# Altium integrated library STMicroelectronics Power Management Switching Regulator.IntLib: 23 symbols
Pins are listed as number, name and electrical type; pins without a type are passive.

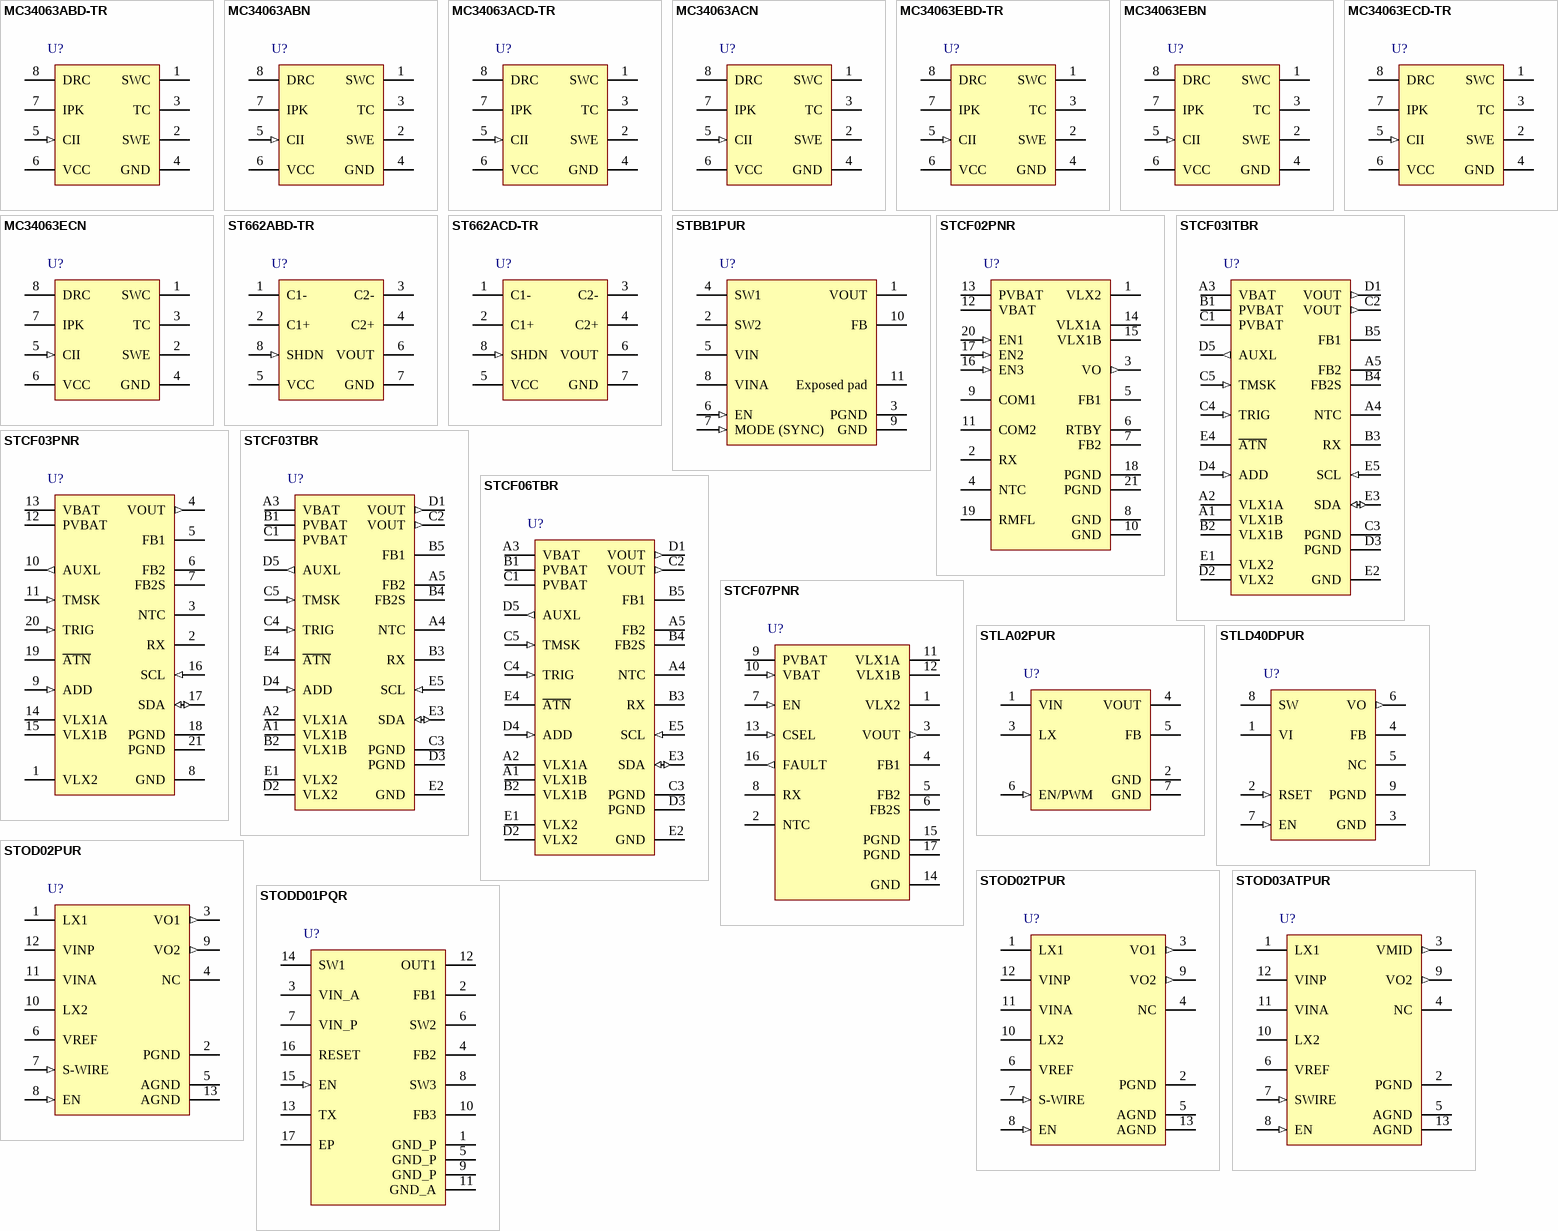
[diagram p0: symbols MC34063ABD-TR to STODD01PQR]

## MC34063ABD-TR
designator U?
DC/DC converter control circuit, 8-Pin SO, Tape and Reel; DatasheetVersion: Nov-2007; PackageVersion: Dec-2002; PackageReference: SO8; PackageDescription: 8-Pin Small Outline Integrated Circuit 1.27 mm Pitch; Code_JEDEC: MS-012-AA; Code_IPC: SOIC127P600-8; ComponentLink1Description: Manufacturer URL; ComponentLink1URL: http://www.st.com; ComponentLink2Description: Datasheet; ComponentLink2URL: http://www.st.com/internet/com/TECHNICAL_RESOURCES/TECHNICAL_LITERATURE/DATASHEET/CD00001232.pdf; ComponentLink3Description: Package Specification; ComponentLink3URL: http://www.st.com/internet/com/TECHNICAL_RESOURCES/TECHNICAL_LITERATURE/PACKAGE_INFORMATION/CD00004680.pdf
footprint SO8_N (SOIC, 8-Leads, Body 4.9x3.9mm, Pitch 1.27mm, IPC Medium Density)
footprint SO8_L (SOIC, 8-Leads, Body 4.9x3.9mm, Pitch 1.27mm, IPC High Density)
footprint SO8_M (SOIC, 8-Leads, Body 4.9x3.9mm, Pitch 1.27mm, IPC Low Density)
pins: 1 SWC (oc), 2 SWE (oe), 3 TC, 4 GND (power), 5 CII (in), 6 VCC (power), 7 IPK, 8 DRC (oc)

## MC34063ABN
designator U?
DC/DC converter control circuit, 8-Pin DIP; DatasheetVersion: Nov-2007; PackageVersion: 2007; PackageReference: DIP8; PackageDescription: DIP, 8-Pin, Skinny Dual In-line Package, 300mil Wide, Pitch 2.54 mm; Code_JEDEC: MO-001-AN; ComponentLink1Description: Manufacturer URL; ComponentLink1URL: http://www.st.com; ComponentLink2Description: Datasheet; ComponentLink2URL: http://www.st.com/internet/com/TECHNICAL_RESOURCES/TECHNICAL_LITERATURE/DATASHEET/CD00001232.pdf
footprint DIP8 (DIP, 8-Leads, Row Spacing 7.62mm, Pitch 2.54mm, Body 9.9x6.4mm)
pins: 1 SWC (oc), 2 SWE (oe), 3 TC, 4 GND (power), 5 CII (in), 6 VCC (power), 7 IPK, 8 DRC (oc)

## MC34063ACD-TR
designator U?
DC/DC converter control circuit, 8-Pin SO, Tape and Reel; DatasheetVersion: Nov-2007; PackageVersion: Dec-2002; PackageReference: SO8; PackageDescription: 8-Pin Small Outline Integrated Circuit 1.27 mm Pitch; Code_JEDEC: MS-012-AA; Code_IPC: SOIC127P600-8; ComponentLink1Description: Manufacturer URL; ComponentLink1URL: http://www.st.com; ComponentLink2Description: Datasheet; ComponentLink2URL: http://www.st.com/internet/com/TECHNICAL_RESOURCES/TECHNICAL_LITERATURE/DATASHEET/CD00001232.pdf; ComponentLink3Description: Package Specification; ComponentLink3URL: http://www.st.com/internet/com/TECHNICAL_RESOURCES/TECHNICAL_LITERATURE/PACKAGE_INFORMATION/CD00004680.pdf
footprint SO8_N (SOIC, 8-Leads, Body 4.9x3.9mm, Pitch 1.27mm, IPC Medium Density)
footprint SO8_L (SOIC, 8-Leads, Body 4.9x3.9mm, Pitch 1.27mm, IPC High Density)
footprint SO8_M (SOIC, 8-Leads, Body 4.9x3.9mm, Pitch 1.27mm, IPC Low Density)
pins: 1 SWC (oc), 2 SWE (oe), 3 TC, 4 GND (power), 5 CII (in), 6 VCC (power), 7 IPK, 8 DRC (oc)

## MC34063ACN
designator U?
DC/DC converter control circuit, 8-Pin DIP; DatasheetVersion: Nov-2007; PackageVersion: 2007; PackageReference: DIP8; PackageDescription: DIP, 8-Pin, Skinny Dual In-line Package, 300mil Wide, Pitch 2.54 mm; Code_JEDEC: MO-001-AN; ComponentLink1Description: Manufacturer URL; ComponentLink1URL: http://www.st.com; ComponentLink2Description: Datasheet; ComponentLink2URL: http://www.st.com/internet/com/TECHNICAL_RESOURCES/TECHNICAL_LITERATURE/DATASHEET/CD00001232.pdf
footprint DIP8 (DIP, 8-Leads, Row Spacing 7.62mm, Pitch 2.54mm, Body 9.9x6.4mm)
pins: 1 SWC (oc), 2 SWE (oe), 3 TC, 4 GND (power), 5 CII (in), 6 VCC (power), 7 IPK, 8 DRC (oc)

## MC34063EBD-TR
designator U?
DC/DC converter control circuit, 8-Pin SO, Tape and Reel; DatasheetVersion: Nov-2007; PackageVersion: Dec-2002; PackageReference: SO8; PackageDescription: 8-Pin Small Outline Integrated Circuit 1.27 mm Pitch; Code_JEDEC: MS-012-AA; Code_IPC: SOIC127P600-8; ComponentLink1Description: Manufacturer URL; ComponentLink1URL: http://www.st.com; ComponentLink2Description: Datasheet; ComponentLink2URL: http://www.st.com/internet/com/TECHNICAL_RESOURCES/TECHNICAL_LITERATURE/DATASHEET/CD00001232.pdf; ComponentLink3Description: Package Specification; ComponentLink3URL: http://www.st.com/internet/com/TECHNICAL_RESOURCES/TECHNICAL_LITERATURE/PACKAGE_INFORMATION/CD00004680.pdf
footprint SO8_N (SOIC, 8-Leads, Body 4.9x3.9mm, Pitch 1.27mm, IPC Medium Density)
footprint SO8_L (SOIC, 8-Leads, Body 4.9x3.9mm, Pitch 1.27mm, IPC High Density)
footprint SO8_M (SOIC, 8-Leads, Body 4.9x3.9mm, Pitch 1.27mm, IPC Low Density)
pins: 1 SWC (oc), 2 SWE (oe), 3 TC, 4 GND (power), 5 CII (in), 6 VCC (power), 7 IPK, 8 DRC (oc)

## MC34063EBN
designator U?
DC/DC converter control circuit, 8-Pin DIP; DatasheetVersion: Nov-2007; PackageVersion: 2007; PackageReference: DIP8; PackageDescription: DIP, 8-Pin, Skinny Dual In-line Package, 300mil Wide, Pitch 2.54 mm; Code_JEDEC: MO-001-AN; ComponentLink1Description: Manufacturer URL; ComponentLink1URL: http://www.st.com; ComponentLink2Description: Datasheet; ComponentLink2URL: http://www.st.com/internet/com/TECHNICAL_RESOURCES/TECHNICAL_LITERATURE/DATASHEET/CD00001232.pdf
footprint DIP8 (DIP, 8-Leads, Row Spacing 7.62mm, Pitch 2.54mm, Body 9.9x6.4mm)
pins: 1 SWC (oc), 2 SWE (oe), 3 TC, 4 GND (power), 5 CII (in), 6 VCC (power), 7 IPK, 8 DRC (oc)

## MC34063ECD-TR
designator U?
DC/DC converter control circuit, 8-Pin SO, Tape and Reel; DatasheetVersion: Nov-2007; PackageVersion: Dec-2002; PackageReference: SO8; PackageDescription: 8-Pin Small Outline Integrated Circuit 1.27 mm Pitch; Code_JEDEC: MS-012-AA; Code_IPC: SOIC127P600-8; ComponentLink1Description: Manufacturer URL; ComponentLink1URL: http://www.st.com; ComponentLink2Description: Datasheet; ComponentLink2URL: http://www.st.com/internet/com/TECHNICAL_RESOURCES/TECHNICAL_LITERATURE/DATASHEET/CD00001232.pdf; ComponentLink3Description: Package Specification; ComponentLink3URL: http://www.st.com/internet/com/TECHNICAL_RESOURCES/TECHNICAL_LITERATURE/PACKAGE_INFORMATION/CD00004680.pdf
footprint SO8_N (SOIC, 8-Leads, Body 4.9x3.9mm, Pitch 1.27mm, IPC Medium Density)
footprint SO8_L (SOIC, 8-Leads, Body 4.9x3.9mm, Pitch 1.27mm, IPC High Density)
footprint SO8_M (SOIC, 8-Leads, Body 4.9x3.9mm, Pitch 1.27mm, IPC Low Density)
pins: 1 SWC (oc), 2 SWE (oe), 3 TC, 4 GND (power), 5 CII (in), 6 VCC (power), 7 IPK, 8 DRC (oc)

## MC34063ECN
designator U?
DC/DC converter control circuit, 8-Pin DIP; DatasheetVersion: Nov-2007; PackageVersion: 2007; PackageReference: DIP8; PackageDescription: DIP, 8-Pin, Skinny Dual In-line Package, 300mil Wide, Pitch 2.54 mm; Code_JEDEC: MO-001-AN; ComponentLink1Description: Manufacturer URL; ComponentLink1URL: http://www.st.com; ComponentLink2Description: Datasheet; ComponentLink2URL: http://www.st.com/internet/com/TECHNICAL_RESOURCES/TECHNICAL_LITERATURE/DATASHEET/CD00001232.pdf
footprint DIP8 (DIP, 8-Leads, Row Spacing 7.62mm, Pitch 2.54mm, Body 9.9x6.4mm)
pins: 1 SWC (oc), 2 SWE (oe), 3 TC, 4 GND (power), 5 CII (in), 6 VCC (power), 7 IPK, 8 DRC (oc)

## ST662ABD-TR
designator U?
0.03A, DC-DC converter from 5 to 12V for Flash memory programming supply, 8-Pin SO, Tape and Reel; DatasheetVersion: Aug-2010; PackageVersion: Dec-2002; PackageReference: SO8; PackageDescription: 8-Pin Small Outline Integrated Circuit 1.27 mm Pitch; Code_JEDEC: MS-012-AA; Code_IPC: SOIC127P600-8; ComponentLink1Description: Manufacturer URL; ComponentLink1URL: http://www.st.com; ComponentLink2Description: Datasheet; ComponentLink2URL: http://www.st.com/internet/com/TECHNICAL_RESOURCES/TECHNICAL_LITERATURE/DATASHEET/CD00001164.pdf; ComponentLink3Description: Package Specification; ComponentLink3URL: http://www.st.com/internet/com/TECHNICAL_RESOURCES/TECHNICAL_LITERATURE/PACKAGE_INFORMATION/CD00004680.pdf
footprint SO8_N (SOIC, 8-Leads, Body 4.9x3.9mm, Pitch 1.27mm, IPC Medium Density)
footprint SO8_L (SOIC, 8-Leads, Body 4.9x3.9mm, Pitch 1.27mm, IPC High Density)
footprint SO8_M (SOIC, 8-Leads, Body 4.9x3.9mm, Pitch 1.27mm, IPC Low Density)
pins: 1 C1-, 2 C1+, 3 C2-, 4 C2+, 5 VCC (power), 6 VOUT (power), 7 GND (power), 8 SHDN (in)

## ST662ACD-TR
designator U?
0.03A, DC-DC converter from 5 to 12V for Flash memory programming supply, 8-Pin SO, Tape and Reel; DatasheetVersion: Aug-2010; PackageVersion: Dec-2002; PackageReference: SO8; PackageDescription: 8-Pin Small Outline Integrated Circuit 1.27 mm Pitch; Code_JEDEC: MS-012-AA; Code_IPC: SOIC127P600-8; ComponentLink1Description: Manufacturer URL; ComponentLink1URL: http://www.st.com; ComponentLink2Description: Datasheet; ComponentLink2URL: http://www.st.com/internet/com/TECHNICAL_RESOURCES/TECHNICAL_LITERATURE/DATASHEET/CD00001164.pdf; ComponentLink3Description: Package Specification; ComponentLink3URL: http://www.st.com/internet/com/TECHNICAL_RESOURCES/TECHNICAL_LITERATURE/PACKAGE_INFORMATION/CD00004680.pdf
footprint SO8_N (SOIC, 8-Leads, Body 4.9x3.9mm, Pitch 1.27mm, IPC Medium Density)
footprint SO8_L (SOIC, 8-Leads, Body 4.9x3.9mm, Pitch 1.27mm, IPC High Density)
footprint SO8_M (SOIC, 8-Leads, Body 4.9x3.9mm, Pitch 1.27mm, IPC Low Density)
pins: 1 C1-, 2 C1+, 3 C2-, 4 C2+, 5 VCC (power), 6 VOUT (power), 7 GND (power), 8 SHDN (in)

## STBB1PUR
designator U?
1 A, high efficiency single inductor dual mode buck-boost DC-DC converter, DFN10 (3x3), Tape and Reel; DatasheetVersion: Sep-2010; PackageVersion: 2010; PackageReference: DFN10(3x3); PackageDescription: 10-Pin DFN, 3 x 3 x 1 mm Body, 0.5 mm Pitch, Exposed Pad; ComponentLink1Description: Manufacturer URL; ComponentLink1URL: http://www.st.com; ComponentLink2Description: Datasheet; ComponentLink2URL: http://www.st.com/internet/com/TECHNICAL_RESOURCES/TECHNICAL_LITERATURE/DATASHEET/CD00227570.pdf
footprint DFN10(3x3)_N (SON, 10-Leads, Body 3x3mm, Pitch 0.5mm, Thermal Pad 2.45x1.6mm, IPC Medium Density)
footprint DFN10(3x3)_L (SON, 10-Leads, Body 3x3mm, Pitch 0.5mm, Thermal Pad 2.45x1.6mm, IPC High Density)
footprint DFN10(3x3)_M (SON, 10-Leads, Body 3x3mm, Pitch 0.5mm, Thermal Pad 2.45x1.6mm, IPC Low Density)
pins: 1 VOUT (power), 2 SW2, 3 PGND (power), 4 SW1, 5 VIN (power), 6 EN (in), 7 MODE (SYNC) (in), 8 VINA (power), 9 GND (power), 10 FB, 11 Exposed pad (power)

## STCF02PNR
designator U?
High power white LED driver up to 600mA, 20-Pin VFQFPN, Tape and Reel; DatasheetVersion: Feb-2007; PackageVersion: 2007; PackageReference: QFN20; PackageDescription: 20-Pin Quad Flat No-Lead, 4 x 4 mm Body, 0.5 mm Pitch; ComponentLink1Description: Manufacturer URL; ComponentLink1URL: http://www.st.com; ComponentLink2Description: Datasheet; ComponentLink2URL: http://www.st.com/internet/com/TECHNICAL_RESOURCES/TECHNICAL_LITERATURE/DATASHEET/CD00072807.pdf
footprint QFN20_N (QFN, 20-Leads, Body 4x4mm, Pitch 0.5mm, Thermal Pad 2.3x2.3mm, IPC Medium Density)
footprint QFN20_L (QFN, 20-Leads, Body 4x4mm, Pitch 0.5mm, Thermal Pad 2.3x2.3mm, IPC High Density)
footprint QFN20_M (QFN, 20-Leads, Body 4x4mm, Pitch 0.5mm, Thermal Pad 2.3x2.3mm, IPC Low Density)
pins: 1 VLX2, 2 RX, 3 VO (out), 4 NTC, 5 FB1, 6 RTBY, 7 FB2, 8 GND (power), 9 COM1, 10 GND (power), 11 COM2, 12 VBAT (power), 13 PVBAT (power), 14 VLX1A, 15 VLX1B, 16 EN3 (in), 17 EN2 (in), 18 PGND (power), 19 RMFL, 20 EN1 (in), 21 PGND (power)

## STCF03ITBR
designator U?
High power white LED driver up to 800mA, 25-Ball uTFBGA, Tape and Reel; DatasheetVersion: Sep-2008; PackageVersion: ver1.0, May-2005; PackageReference: uTFBGA25; PackageDescription: 25-Ball Thin-Profile Fine-Pitch Ball Grid Array 0.5 mm Pitch; ComponentLink1Description: Manufacturer URL; ComponentLink1URL: http://www.st.com; ComponentLink2Description: Datasheet; ComponentLink2URL: http://www.st.com/internet/com/TECHNICAL_RESOURCES/TECHNICAL_LITERATURE/DATASHEET/CD00166675.pdf; ComponentLink3Description: Package Specification; ComponentLink3URL: http://www.st.com/internet/com/TECHNICAL_RESOURCES/TECHNICAL_LITERATURE/PACKAGE_INFORMATION/CD00056367.pdf
footprint TFBGA25 (BGA, 25-Leads, Body 3x3mm, Pitch 0.5mm)
pins: A1 VLX1B, A2 VLX1A, A3 VBAT (power), A4 NTC, A5 FB2, B1 PVBAT (power), B2 VLX1B, B3 RX, B4 FB2S, B5 FB1, C1 PVBAT (power), C2 VOUT (out), C3 PGND (power), C4 TRIG (in), C5 TMSK (in), D1 VOUT (out), D2 VLX2, D3 PGND (power), D4 ADD (in), D5 AUXL (out), E1 VLX2, E2 GND (power), E3 SDA (io), E4 ~{ATN} (oc), E5 SCL (in)

## STCF03PNR
designator U?
High power white LED driver up to 800mA, 20-Pin VFQFPN, Tape and Reel; DatasheetVersion: Feb-2011; PackageVersion: 2011; PackageReference: QFN20(4x4); PackageDescription: 20-Pin Quad Flat No-Lead, 4 x 4 mm Body, 0.5 mm Pitch; ComponentLink1Description: Manufacturer URL; ComponentLink1URL: http://www.st.com; ComponentLink2Description: Datasheet; ComponentLink2URL: http://www.st.com/internet/com/TECHNICAL_RESOURCES/TECHNICAL_LITERATURE/DATASHEET/CD00150946.pdf
footprint QFN20(4x4)_N (QFN, 20-Leads, Body 4x4mm, Pitch 0.5mm, Thermal Pad 2.7x2.7mm, IPC Medium Density)
footprint QFN20(4x4)_L (QFN, 20-Leads, Body 4x4mm, Pitch 0.5mm, Thermal Pad 2.7x2.7mm, IPC High Density)
footprint QFN20(4x4)_M (QFN, 20-Leads, Body 4x4mm, Pitch 0.5mm, Thermal Pad 2.7x2.7mm, IPC Low Density)
pins: 1 VLX2, 2 RX, 3 NTC, 4 VOUT (out), 5 FB1, 6 FB2, 7 FB2S, 8 GND (power), 9 ADD (in), 10 AUXL (out), 11 TMSK (in), 12 PVBAT (power), 13 VBAT (power), 14 VLX1A, 15 VLX1B, 16 SCL (in), 17 SDA (io), 18 PGND (power), 19 ~{ATN} (oc), 20 TRIG (in), 21 PGND (power)

## STCF03TBR
designator U?
High power white LED driver up to 800mA, 25-Ball uTFBGA, Tape and Reel; DatasheetVersion: Feb-2011; PackageVersion: ver1.0, May-2005; PackageReference: uTFBGA25; PackageDescription: 25-Ball Thin-Profile Fine-Pitch Ball Grid Array 0.5 mm Pitch; ComponentLink1Description: Manufacturer URL; ComponentLink1URL: http://www.st.com; ComponentLink2Description: Datasheet; ComponentLink2URL: http://www.st.com/internet/com/TECHNICAL_RESOURCES/TECHNICAL_LITERATURE/DATASHEET/CD00150946.pdf; ComponentLink3Description: Package Specification; ComponentLink3URL: http://www.st.com/internet/com/TECHNICAL_RESOURCES/TECHNICAL_LITERATURE/PACKAGE_INFORMATION/CD00056367.pdf
footprint TFBGA25 (BGA, 25-Leads, Body 3x3mm, Pitch 0.5mm)
pins: A1 VLX1B, A2 VLX1A, A3 VBAT (power), A4 NTC, A5 FB2, B1 PVBAT (power), B2 VLX1B, B3 RX, B4 FB2S, B5 FB1, C1 PVBAT (power), C2 VOUT (out), C3 PGND (power), C4 TRIG (in), C5 TMSK (in), D1 VOUT (out), D2 VLX2, D3 PGND (power), D4 ADD (in), D5 AUXL (out), E1 VLX2, E2 GND (power), E3 SDA (io), E4 ~{ATN} (oc), E5 SCL (in)

## STCF06TBR
designator U?
White LED driver with 12C interface, 25-Ball uTFBGA, Tape and Reel; DatasheetVersion: Jul-2010; PackageVersion: ver1.0, May-2005; PackageReference: uTFBGA25; PackageDescription: 25-Ball Thin-Profile Fine-Pitch Ball Grid Array 0.5 mm Pitch; ComponentLink1Description: Manufacturer URL; ComponentLink1URL: http://www.st.com; ComponentLink2Description: Datasheet; ComponentLink2URL: http://www.st.com/internet/com/TECHNICAL_RESOURCES/TECHNICAL_LITERATURE/DATASHEET/CD00188881.pdf; ComponentLink3Description: Package Specification; ComponentLink3URL: http://www.st.com/internet/com/TECHNICAL_RESOURCES/TECHNICAL_LITERATURE/PACKAGE_INFORMATION/CD00056367.pdf
footprint TFBGA25 (BGA, 25-Leads, Body 3x3mm, Pitch 0.5mm)
pins: A1 VLX1B, A2 VLX1A, A3 VBAT (power), A4 NTC, A5 FB2, B1 PVBAT (power), B2 VLX1B, B3 RX, B4 FB2S, B5 FB1, C1 PVBAT (power), C2 VOUT (out), C3 PGND (power), C4 TRIG (in), C5 TMSK (in), D1 VOUT (out), D2 VLX2, D3 PGND (power), D4 ADD (in), D5 AUXL (out), E1 VLX2, E2 GND (power), E3 SDA (io), E4 ~{ATN} (oc), E5 SCL (in)

## STCF07PNR
designator U?
High buck-boost power white LED driver, 16-Pin VFQFPN, Tape and Reel; DatasheetVersion: Apr-2011; PackageVersion: ver1.0, Nov-2005; PackageReference: QFN16(4x4); PackageDescription: 16-Pin Quad Flat No-Lead, 4 x 4 mm Body, 0.5 mm Pitch; ComponentLink1Description: Manufacturer URL; ComponentLink1URL: http://www.st.com; ComponentLink2Description: Datasheet; ComponentLink2URL: http://www.st.com/internet/com/TECHNICAL_RESOURCES/TECHNICAL_LITERATURE/DATASHEET/CD00255672.pdf
footprint QFN16(4x4)_N (QFN, 16-Leads, Body 4x4mm, Pitch 0.5mm, Thermal Pad 2.35x2.35mm, IPC Medium Density)
footprint QFN16(4x4)_L (QFN, 16-Leads, Body 4x4mm, Pitch 0.5mm, Thermal Pad 2.35x2.35mm, IPC High Density)
footprint QFN16(4x4)_M (QFN, 16-Leads, Body 4x4mm, Pitch 0.5mm, Thermal Pad 2.35x2.35mm, IPC Low Density)
pins: 1 VLX2, 2 NTC, 3 VOUT (out), 4 FB1, 5 FB2, 6 FB2S, 7 EN (in), 8 RX, 9 PVBAT (power), 10 VBAT (in), 11 VLX1A, 12 VLX1B, 13 CSEL (in), 14 GND (power), 15 PGND (power), 16 FAULT (out), 17 PGND (power)

## STLA02PUR
designator U?
White LED driver for display backlight, 6-Pin VFDFPN, Tape and Reel; DatasheetVersion: Feb-2011; PackageVersion: 2011; PackageReference: DFN6(2x2)_E2-15; PackageDescription: 6-Pin DFN, 2 x 2 x 0.8 mm Body, 0.5 mm Pitch, Exposed Pad; ComponentLink1Description: Manufacturer URL; ComponentLink1URL: http://www.st.com; ComponentLink2Description: Datasheet; ComponentLink2URL: http://www.st.com/internet/com/TECHNICAL_RESOURCES/TECHNICAL_LITERATURE/DATASHEET/DM00022806.pdf
footprint DFN6(2x2)_E2-15_V (SON, 6-Leads, Body 2x2 mm, Pitch 0.5mm, Thermal Pad 1.6x0.4mm, ST Recommended)
pins: 1 VIN (power), 2 GND (power), 3 LX, 4 VOUT (power), 5 FB, 6 EN/PWM (in), 7 GND (power)

## STLD40DPUR
designator U?
White Led Power Supply For Large Display Backlight, 8-Pin VFDFPN, Tape and Reel; DatasheetVersion: May-2011; PackageVersion: 2011; PackageReference: QFN8; PackageDescription: 8-Pin Dual Flat No-Lead, 3 x 3 mm Body, 0.65 mm Pitch, Exposed Pad; ComponentLink1Description: Manufacturer URL; ComponentLink1URL: http://www.st.com; ComponentLink2Description: Datasheet; ComponentLink2URL: http://www.st.com/internet/com/TECHNICAL_RESOURCES/TECHNICAL_LITERATURE/DATASHEET/CD00098098.pdf
footprint QFN8_V (SON, 8-Leads, Body 3x3mm, Pitch 0.65mm, Thermal Pad 2.74x2mm, ST Recommended)
pins: 1 VI (power), 2 RSET (in), 3 GND (power), 4 FB, 5 NC, 6 VO (out), 7 EN (in), 8 SW (oc), 9 PGND (power)

## STOD02PUR
designator U?
Dual DC-DC converter for powering AMOLED display, 12-Pin VFDFPN, Tape and Reel; DatasheetVersion: Jun-2009; PackageVersion: 2009; PackageReference: DFN12L(3x3x08); PackageDescription: 12-Pin DFN, 3 x 3 x 0.8 mm Body, 0.45 mm Pitch, Exposed Pad; ComponentLink1Description: Manufacturer URL; ComponentLink1URL: http://www.st.com; ComponentLink2Description: Datasheet; ComponentLink2URL: http://www.st.com/internet/com/TECHNICAL_RESOURCES/TECHNICAL_LITERATURE/DATASHEET/CD00219091.pdf
footprint DFN12L(3x3x08)_N (SON, 12-Leads, Body 3x3mm, Pitch 0.45mm, Thermal Pad 2x1.2mm, IPC Medium Density)
footprint DFN12L(3x3x08)_L (SON, 12-Leads, Body 3x3mm, Pitch 0.45mm, Thermal Pad 2x1.2mm, IPC High Density)
footprint DFN12L(3x3x08)_M (SON, 12-Leads, Body 3x3mm, Pitch 0.45mm, Thermal Pad 2x1.2mm, IPC Low Density)
pins: 1 LX1, 2 PGND (power), 3 VO1 (out), 4 NC, 5 AGND (power), 6 VREF (power), 7 S-WIRE (in), 8 EN (in), 9 VO2 (out), 10 LX2, 11 VINA (power), 12 VINP (power), 13 AGND (power)

## STOD02TPUR
designator U?
Dual DC-DC converter for powering AMOLED display, 12-Pin VFDFPN, Tape and Reel; DatasheetVersion: Jun-2009; PackageVersion: 2009; PackageReference: DFN12L(3x3x06); PackageDescription: 12-Pin DFN, 3 x 3 x 0.6 mm Body, 0.45 mm Pitch, Exposed Pad; ComponentLink1Description: Manufacturer URL; ComponentLink1URL: http://www.st.com; ComponentLink2Description: Datasheet; ComponentLink2URL: http://www.st.com/internet/com/TECHNICAL_RESOURCES/TECHNICAL_LITERATURE/DATASHEET/CD00219091.pdf
footprint DFN12L(3x3x06)_N (SON, 12-Leads, Body 3x3mm, Pitch 0.45mm, Thermal Pad 2x1.2mm, IPC Medium Density)
footprint DFN12L(3x3x06)_L (SON, 12-Leads, Body 3x3mm, Pitch 0.45mm, Thermal Pad 2x1.2mm, IPC High Density)
footprint DFN12L(3x3x06)_M (SON, 12-Leads, Body 3x3mm, Pitch 0.45mm, Thermal Pad 2x1.2mm, IPC Low Density)
pins: 1 LX1, 2 PGND (power), 3 VO1 (out), 4 NC, 5 AGND (power), 6 VREF (power), 7 S-WIRE (in), 8 EN (in), 9 VO2 (out), 10 LX2, 11 VINA (power), 12 VINP (power), 13 AGND (power)

## STOD03ATPUR
designator U?
Dual DC-DC converter for powering AMOLED display, 12-Pin VFDFPN, Tape and Reel; DatasheetVersion: Sep-2010; PackageVersion: 2009; PackageReference: DFN12L(3x3x06); PackageDescription: 12-Pin DFN, 3 x 3 x 0.6 mm Body, 0.45 mm Pitch, Exposed Pad; ComponentLink1Description: Manufacturer URL; ComponentLink1URL: http://www.st.com; ComponentLink2Description: Datasheet; ComponentLink2URL: http://www.st.com/internet/com/TECHNICAL_RESOURCES/TECHNICAL_LITERATURE/DATASHEET/CD00281536.pdf
footprint DFN12L(3x3x06)_N (SON, 12-Leads, Body 3x3mm, Pitch 0.45mm, Thermal Pad 2x1.2mm, IPC Medium Density)
footprint DFN12L(3x3x06)_L (SON, 12-Leads, Body 3x3mm, Pitch 0.45mm, Thermal Pad 2x1.2mm, IPC High Density)
footprint DFN12L(3x3x06)_M (SON, 12-Leads, Body 3x3mm, Pitch 0.45mm, Thermal Pad 2x1.2mm, IPC Low Density)
pins: 1 LX1, 2 PGND (power), 3 VMID (out), 4 NC, 5 AGND (power), 6 VREF (power), 7 SWIRE (in), 8 EN (in), 9 VO2 (out), 10 LX2, 11 VINA (power), 12 VINP (power), 13 AGND (power)

## STODD01PQR
designator U?
Monolithic power management for high definition ODD with true shut-down, reset, and programmable step-up voltage, 16-Pin VFQFPN, Tape and Reel; DatasheetVersion: Feb-2011; PackageVersion: 2011; PackageReference: QFN16; PackageDescription: 16-Pin Quad Flat No-Lead 0.65 mm Pitch; ComponentLink1Description: Manufacturer URL; ComponentLink1URL: http://www.st.com; ComponentLink2Description: Datasheet; ComponentLink2URL: http://www.st.com/internet/com/TECHNICAL_RESOURCES/TECHNICAL_LITERATURE/DATASHEET/CD00281592.pdf
footprint QFN16_N (QFN, 16-Leads, Body 4x4mm, Pitch 0.65mm, Thermal Pad 2.8x2.8mm, IPC Medium Density)
footprint QFN16_L (QFN, 16-Leads, Body 4x4mm, Pitch 0.65mm, Thermal Pad 2.8x2.8mm, IPC High Density)
footprint QFN16_M (QFN, 16-Leads, Body 4x4mm, Pitch 0.65mm, Thermal Pad 2.8x2.8mm, IPC Low Density)
pins: 1 GND_P (power), 2 FB1, 3 VIN_A (power), 4 FB2, 5 GND_P (power), 6 SW2, 7 VIN_P (power), 8 SW3, 9 GND_P (power), 10 FB3, 11 GND_A (power), 12 OUT1 (power), 13 TX, 14 SW1, 15 EN (in), 16 RESET (oc), 17 EP (power)